# EAGLE library part MICROCHIP_FLASH_MEM (library konekt)
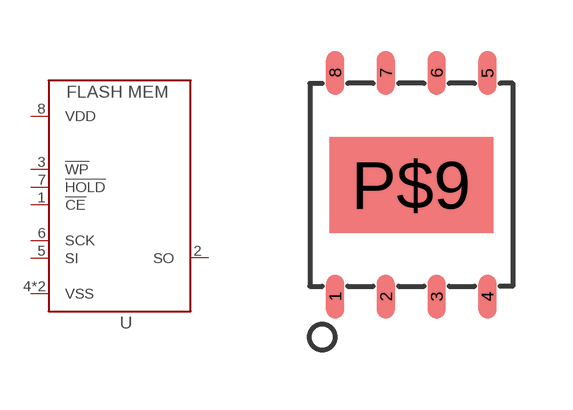
[diagram p2: symbol with the pads of TDFN8_5X6; footprint TDFN8_5X6]

Designator prefix U

## MICROCHIP_FLASH_MEM  [TDFN8_5X6]
1  !CE
2  SO
3  !WP
4  VSS
5  SI
6  SCK
7  !HOLD
8  VDD
P$9  VSS

## Footprint TDFN8_5X6 (pad centres in mm)
smd 0.45 x 1.1: 1 -1.905,-2.8; 2 -0.635,-2.8; 3 0.635,-2.8; 4 1.905,-2.8; 5 1.905,2.8; 6 0.635,2.8; 7 -0.635,2.8; 8 -1.905,2.8
smd 4.1 x 2.4: P$9 0,0